# EAGLE library part ESP32-WROOM-32E (library plc-bridge)
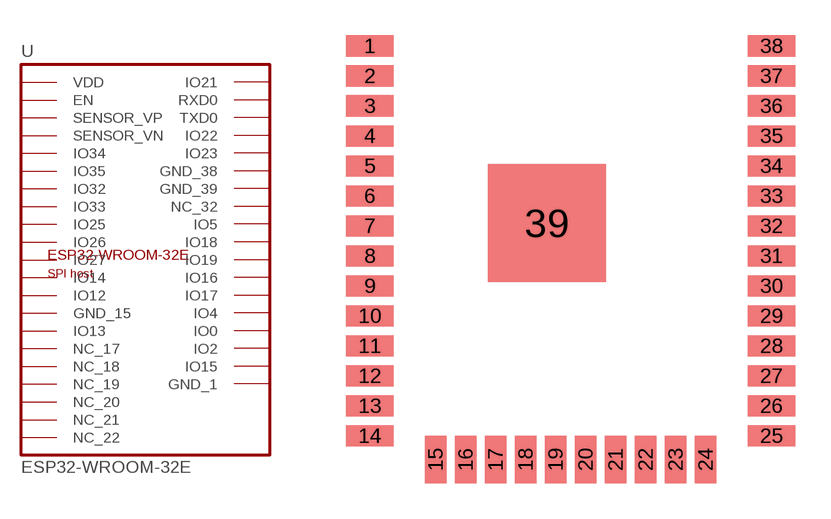
[diagram p2: symbol with the pads of ESP32WROOM; footprint ESP32WROOM]

Designator prefix U

## ESP32-WROOM-32E  [ESP32WROOM]
1  GND_1
2  VDD
3  EN
4  SENSOR_VP
5  SENSOR_VN
6  IO34
7  IO35
8  IO32
9  IO33
10  IO25
11  IO26
12  IO27
13  IO14
14  IO12
15  GND_15
16  IO13
17  NC_17
18  NC_18
19  NC_19
20  NC_20
21  NC_21
22  NC_22
23  IO15
24  IO2
25  IO0
26  IO4
27  IO16
28  IO17
29  IO5
30  IO18
31  IO19
32  NC_32
33  IO21
34  RXD0
35  TXD0
36  IO22
37  IO23
38  GND_38
39  GND_39

## Footprint ESP32WROOM (pad centres in mm)
Espressif ESP32-WROOM-32 / -32E module, 18 x 25.5 mm, 38 castellated pads + ground pad
smd 2 x 0.9: 1 -8.5,8.255; 2 -8.5,6.985; 3 -8.5,5.715; 4 -8.5,4.445; 5 -8.5,3.175; 6 -8.5,1.905; 7 -8.5,0.635; 8 -8.5,-0.635; 9 -8.5,-1.905; 10 -8.5,-3.175; 11 -8.5,-4.445; 12 -8.5,-5.715; 13 -8.5,-6.985; 14 -8.5,-8.255; 25 8.5,-8.255; 26 8.5,-6.985; 27 8.5,-5.715; 28 8.5,-4.445; 29 8.5,-3.175; 30 8.5,-1.905; 31 8.5,-0.635; 32 8.5,0.635; 33 8.5,1.905; 34 8.5,3.175; 35 8.5,4.445; 36 8.5,5.715; 37 8.5,6.985; 38 8.5,8.255
smd 0.9 x 2: 15 -5.715,-9.255; 16 -4.445,-9.255; 17 -3.175,-9.255; 18 -1.905,-9.255; 19 -0.635,-9.255; 20 0.635,-9.255; 21 1.905,-9.255; 22 3.175,-9.255; 23 4.445,-9.255; 24 5.715,-9.255
smd 5 x 5: 39 -1,0.755